# Altium schematic symbol library Passive.SchLib: 86 symbols (part 1 of 4)
Pins are listed as number, name and electrical type; pins without a type are passive.

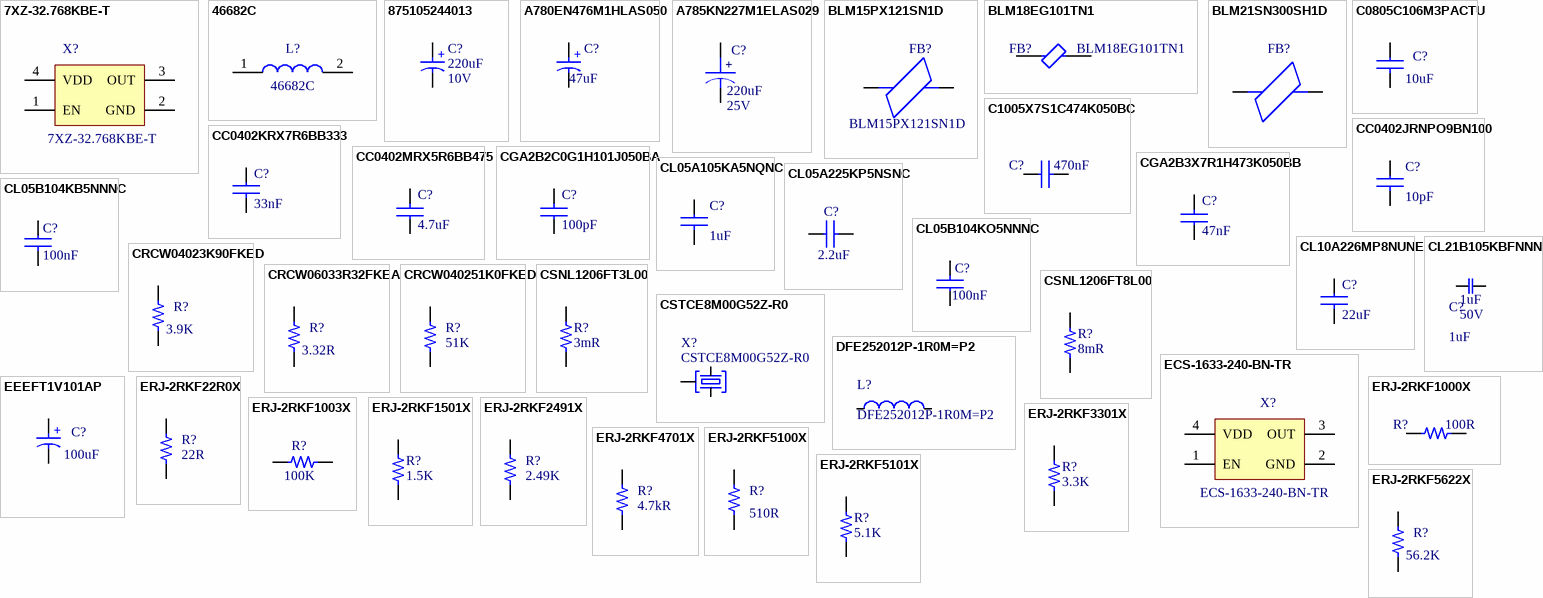
[diagram p0: symbols 7XZ-32.768KBE-T to ERJ-2RKF5622X]

## 7XZ-32.768KBE-T
designator X?
Oscillator XO 0.032768MHz ±50ppm 15pF CMOS 55% 3.3V 4-Pin CSMD T/R; Manufacturer: TXC; Library: Hexabitz; Supplier: Digikey; Supplier Part Number: 887-1579-6-ND; RoHS: Yes; Category: Oscillators; Stock: 16214; Pricing: 1=1.65, 10=1.431, 50=1.297, 100=1.2434, 500=1.12722, 1000=1.08064 (USD); ComponentLink1URL: https://datasheet.ciiva.com/13151/7xz-6803-13151400.pdf?src-supplier=Mouser; ComponentLink1Description: https://datasheet.ciiva.com/13151/7xz-6803-13151400.pdf?src-supplier=Mouser; ComponentLink2URL: https://datasheet.ciiva.com/8077/1772662-8077163.pdf?src-supplier=Element14; ComponentLink2Description: https://datasheet.ciiva.com/8077/1772662-8077163.pdf?src-supplier=Element14; ComponentLink3URL: https://datasheet.ciiva.com/6724/7xz-6724638.pdf?src-supplier=Digikey; ComponentLink3Description: https://datasheet.ciiva.com/6724/7xz-6724638.pdf?src-supplier=Digikey; ComponentLink4URL: https://datasheet.ciiva.com/6724/7xz-6724639.pdf?src-supplier=Digikey; ComponentLink4Description: https://datasheet.ciiva.com/6724/7xz-6724639.pdf?src-supplier=Digikey; Supplier 1: Digikey; Supplier Part Number 1: 887-1579-6-ND; Manufacturer Part Number: 7XZ-32.768KBE-T
footprint 7XZ32768KBET
pins: 1 EN, 2 GND, 3 OUT, 4 VDD

## 46682C
designator L?
Inductor Power Shielded Bobbin Core 6.8uH 30% 10KHz 3.1A 0.052Ohm DCR T/R; Manufacturer: Murata; Library: Hexabitz; DC Resistance (DCR): 52mR; ComponentLink1Description: datasheet; ComponentLink1URL: https://www.coilcraft.com/getmedia/dd74e670-e705-456a-9a69-585fe02eaf3c/xal1010.pdf; ComponentLink2Description: Manufacture Page; ComponentLink2URL: https://www.coilcraft.com/en-us/products/power/shielded-inductors/molded-inductor/xal/xal1010/xal1010-451/; Supplier: Digikey; Supplier Part Number: 811-1180-6-ND; RoHS: Yes; Category: Fixed Inductors; Stock: 859; Pricing: 1=0.5 (USD); Mounting Technology: Surface Mount; Case/Package: Nonstandard; Pins: 2; Min Operating Temperature: -40°C; Max Operating Temperature: 125°C; Packaging: Tape and Reel; Tolerance: 30%; Shielding: Shielded; Inductance Tolerance: 30%; Package Quantity: 1000; Value: 6.8uH; Max DC Current: 3.1A; Termination: SMD/SMT; Test Frequency: 10kHz; Series: 4600; Length: 7.3mm; Width: 7.3mm; Height: 4.55mm; Reach SVHC Compliant: No; RoHS Compliant: Yes; ComponentLink3URL: https://datasheet.ciiva.com/1057/kmp-4600-1057017.pdf?src-supplier=Digikey; ComponentLink3Description: https://datasheet.ciiva.com/1057/kmp-4600-1057017.pdf?src-supplier=Digikey; ComponentLink4URL: https://datasheet.ciiva.com/1057/kmp-4600-1057018.pdf?src-supplier=Digikey; ComponentLink4Description: https://datasheet.ciiva.com/1057/kmp-4600-1057018.pdf?src-supplier=Digikey; ComponentLink5URL: https://datasheet.ciiva.com/1057/kmp-4600-1057019.pdf?src-supplier=Digikey; ComponentLink5Description: https://datasheet.ciiva.com/1057/kmp-4600-1057019.pdf?src-supplier=Digikey; ComponentLink6URL: https://datasheet.ciiva.com/8035/1482257-8035629.pdf?src-supplier=Element14; ComponentLink6Description: https://datasheet.ciiva.com/8035/1482257-8035629.pdf?src-supplier=Element14; Supplier 1: Digikey; Supplier Part Number 1: 811-1180-6-ND; Manufacturer Part Number: 46682C
footprint IND2_7P5X7P5
pins: 1, 2

## 875105244013
designator C?  value 220uF  Voltage Rating: 10V  (hidden comment: 875105244013)
CAP ALUM POLY 220UF 20% 10V SMD; Manufacturer: Wurth Electronics; ESR (Equivalent Series Resistance): 30mR; Ripple Current: 1.97A; Library: Hexabitz; Supplier: Digikey; Supplier Part Number: 732-6413-6-ND; Manufacturer Part Number: 875105244013; RoHS: Yes; Category: Polymer Capacitors; Stock: 16329; Pricing: 1=0.7, 50=0.599, 100=0.522, 250=0.464, 500=0.406 (USD); Mounting Technology: Surface Mount; Case/Package: Radial; Min Operating Temperature: -55°C; Max Operating Temperature: 105°C; Package Quantity: 1; Packaging: Cut Tape; Tolerance: 20%; Voltage Rating (DC): 10V; Series: WCAP-PSLP; Height - Seated (Max): 0.228inch; RoHS Compliant: Yes; Reach SVHC Compliant: Unknown; ComponentLink1URL: http://www.farnell.com/datasheets/1880494.pdf?src-supplier=Farnell; ComponentLink1Description: http://www.farnell.com/datasheets/1880494.pdf?src-supplier=Farnell; ComponentLink2URL: https://katalog.we-online.de/pbs/datasheet/875105244013.pdf?src-supplier=Digikey; ComponentLink2Description: https://katalog.we-online.de/pbs/datasheet/875105244013.pdf?src-supplier=Digikey; ComponentLink3URL: http://katalog.we-online.de/pbs/datasheet/875105244013.pdf?src-supplier=Digikey; ComponentLink3Description: http://katalog.we-online.de/pbs/datasheet/875105244013.pdf?src-supplier=Digikey; ComponentLink4URL: http://www.farnell.com/datasheets/1880494.pdf?src-supplier=Element14; ComponentLink4Description: http://www.farnell.com/datasheets/1880494.pdf?src-supplier=Element14; ComponentLink5URL: http://www.farnell.com/datasheets/1880494.pdf?src-supplier=Newark; ComponentLink5Description: http://www.farnell.com/datasheets/1880494.pdf?src-supplier=Newark; Supplier 1: Digikey; Supplier Part Number 1: 732-6413-6-ND
footprint WCAP-PSLP_D6.3H5.8 (Aluminum Polymer Capacitors, body diameter 6.3mm)
pins: 1 P, 2 N
text: +

## A780EN476M1HLAS050
designator C?  value 47uF  (hidden comment: A780EN476M1HLAS050)
Cap, Alu Elec, Hybrid, 47UF, SMD Rohs Compliant: Yes; Manufacturer: KEMET; Library: Hexabitz; Voltage: 50V; Supplier: Digikey; Supplier Part Number: 399-A780EN476M1HLAS050CT-ND; Manufacturer Part Number: A780EN476M1HLAS050; RoHS: No; Category: Polymer Capacitors; Stock: 3100; Pricing: 1=0.81, 10=0.51, 50=0.3842, 100=0.3442 (USD); ComponentLink1URL: https://datasheet.octopart.com/A780EN476M1HLAS050-KEMET-datasheet-181997188.pdf?src-supplier=Farnell; ComponentLink1Description: https://datasheet.octopart.com/A780EN476M1HLAS050-KEMET-datasheet-181997188.pdf?src-supplier=Farnell; ComponentLink2Description: MFN_Datasheet; ComponentLink2URL: https://content.kemet.com/datasheets/KEM_A4098_A780.pdf; Supplier 1: Digikey; Supplier Part Number 1: 399-A780EN476M1HLAS050DKR-ND; Supplier 2: Mouser; Supplier Part Number 2: 80-A780EN476M1HLAS50
footprint CAPAE660X1000N
pins: 1 P, 2 N
text: +

## A785KN227M1ELAS029
designator C?  value 220uF  Voltage Rating: 25V  (hidden comment: A785KN227M1ELAS029)
Cap Alum Poly Hyb 26V 220F SMD; Manufacturer: KEMET; Library: Hexabitz; Supplier: Digikey; Supplier Part Number: 399-A785KN227M1ELAS029DKR-ND; RoHS: No; Stock: 2495; Pricing: 1=0.96, 10=0.609, 50=0.4616, 100=0.4148 (USD); Manufacturer Part Number: A785KN227M1ELAS029; Supplier 1: Digikey; Supplier Part Number 1: 399-A785KN227M1ELAS029DKR-ND; ComponentLink1Description: datasheet; ComponentLink1URL: https://content.kemet.com/datasheets/KEM_A4125_A785.pdf
footprint CAPAE830X1000N
pins: 1, 2
text: +

## BLM15PX121SN1D
designator FB?
Ferrite Beads Multi-Layer 120Ohm 25% 100MHz 2A 0.055Ohm DCR 0402 T/R; Manufacturer: Murata; Library: Hexabitz; Material: Steel; Core Material: 228ConductorMaterial; Impedance: 120R; Number of Lines: 1; DC Resistance (DCR): 55mR; Number of Circuits: 1NUMBER; Supplier: Digikey; Supplier Part Number: 490-9656-6-ND; Manufacturer Part Number: BLM15PX121SN1D; RoHS: Yes; Category: Ferrite Beads and Chips; Stock: 251144; Pricing: 1=0.1, 10=0.068, 25=0.0592, 50=0.053, 100=0.0475, 250=0.04092, 500=0.0364, 1000=0.0322, 5000=0.02361 (USD); Case/Package: 0402; Pins: 2; Case Code (Metric): 1005; Case Code (Imperial): 0402; Weight: 2.3E-05oz; Min Operating Temperature: -55°C; Max Operating Temperature: 125°C; Package Quantity: 1; Tolerance: 25%; Packaging: Tape and Reel; Current Rating: 2A; Max Current Rating: 2A; Termination: SMD/SMT; Max DC Current: 2A; Test Frequency: 100MHz; Series: EMIFIL®, BLM15P; RMS Current (Irms): 2A; ESR: 55mR; Length: 1mm; Width: 0.5mm; Height: 0.5mm; Reach SVHC Compliant: No; Lead Free: Lead Free; RoHS Compliant: Yes; ComponentLink1URL: https://datasheet.ciiva.com/41449/001172210-da-01-en-drossel-0402-120r-1-0x0-5mm-10000st-41449498.pdf?src-supplier=Conrad; ComponentLink1Description: https://datasheet.ciiva.com/41449/001172210-da-01-en-drossel-0402-120r-1-0x0-5mm-10000st-41449498.pdf?src-supplier=Conrad; ComponentLink2URL: https://datasheet.ciiva.com/41860/l0110e-41860699.pdf?src-supplier=Digikey; ComponentLink2Description: https://datasheet.ciiva.com/41860/l0110e-41860699.pdf?src-supplier=Digikey; Supplier 1: Digikey; Supplier Part Number 1: 490-9656-6-ND
footprint FP-BLM15-0_05-d0_7-MFG
pins: 1, 2

## BLM18EG101TN1
designator FB?
Ferrite Beads Multi-Layer 100Ohm 25% 100MHz 2A 45mOhm DCR 0603 Paper T/R; Manufacturer: Murata; Manufacturer Part Number: BLM18EG101TN1D; Library: Hexabitz; Material: Ferrite,Steel; Impedance: 100R; DC Resistance (DCR): 45mR; Number of Lines: 1; Supplier: Digikey; Supplier Part Number: 490-5978-6-ND; RoHS: Yes; Category: Ferrite Beads and Chips; Stock: 167227; Pricing: 1=0.24, 10=0.167, 25=0.1444, 50=0.1292, 100=0.1154, 250=0.09864, 500=0.08708, 1000=0.07636 (USD); Case/Package: 0603; Pins: 2; Core Material: Ferrite; Case Code (Metric): 1608; Case Code (Imperial): 0603; Min Operating Temperature: -55°C; Max Operating Temperature: 125°C; Packaging: Tape and Reel; Current Rating: 2A; Tolerance: 25%; Test Frequency: 100MHz; RMS Current (Irms): 2A; ESR: 45mR; Package Quantity: 1; Max Current Rating: 2A; Max DC Current: 2A; Termination: SMD/SMT; Number of Circuits: 1; Series: BLM18E; DC Resistance-Max: 45mR; Length: 1.6mm; Width: 0.8mm; Height: 0.8mm; Depth: 0.8mm; RoHS Compliant: Yes; Reach SVHC Compliant: No; Lead Free: Lead Free; ComponentLink1URL: https://datasheet.ciiva.com/11795/0900766b811b5866-11795406.pdf?src-supplier=Rs; ComponentLink1Description: https://datasheet.ciiva.com/11795/0900766b811b5866-11795406.pdf?src-supplier=Rs; ComponentLink2URL: https://datasheet.ciiva.com/6211/l0110s0101blm18e-6211712.pdf?src-supplier=Digikey; ComponentLink2Description: https://datasheet.ciiva.com/6211/l0110s0101blm18e-6211712.pdf?src-supplier=Digikey; ComponentLink3URL: https://datasheet.ciiva.com/41449/001171697-da-01-en-chip-drossel0603-100r-2000ma-1-6x0-8mm-41449375.pdf?src-supplier=Conrad; ComponentLink3Description: https://datasheet.ciiva.com/41449/001171697-da-01-en-chip-drossel0603-100r-2000ma-1-6x0-8mm-41449375.pdf?src-supplier=Conrad; ComponentLink4URL: https://datasheet.ciiva.com/41449/001172263-da-01-en-drossel-0603-100r-1-6x0-8mm-4000st-41449578.pdf?src-supplier=Conrad; ComponentLink4Description: https://datasheet.ciiva.com/41449/001172263-da-01-en-drossel-0603-100r-1-6x0-8mm-4000st-41449578.pdf?src-supplier=Conrad; ComponentLink5URL: https://datasheet.ciiva.com/1467/5169-1467153.pdf?src-supplier=Element14; ComponentLink5Description: https://datasheet.ciiva.com/1467/5169-1467153.pdf?src-supplier=Element14; ComponentLink6URL: https://datasheet.ciiva.com/1467/5169-1467154.pdf?src-supplier=Element14; ComponentLink6Description: https://datasheet.ciiva.com/1467/5169-1467154.pdf?src-supplier=Element14; ComponentLink7URL: https://datasheet.ciiva.com/6211/l0110s0101blm18e-6211711.pdf?src-supplier=Digikey; ComponentLink7Description: https://datasheet.ciiva.com/6211/l0110s0101blm18e-6211711.pdf?src-supplier=Digikey; ComponentLink8URL: https://datasheet.ciiva.com/6211/l0110s0101blm18e-6211709.pdf?src-supplier=Digikey; ComponentLink8Description: https://datasheet.ciiva.com/6211/l0110s0101blm18e-6211709.pdf?src-supplier=Digikey; ComponentLink9URL: https://datasheet.ciiva.com/3082/l0110s0101blm18e-3082713.pdf?src-supplier=Avnet; ComponentLink9Description: https://datasheet.ciiva.com/3082/l0110s0101blm18e-3082713.pdf?src-supplier=Avnet; ComponentLink10URL: https://datasheet.ciiva.com/16390/l0110s0101blm18e-16390603.pdf?src-supplier=Future+Electronics; ComponentLink10Description: https://datasheet.ciiva.com/16390/l0110s0101blm18e-16390603.pdf?src-supplier=Future+Electronics; Supplier 1: Digikey; Supplier Part Number 1: 490-5978-6-ND
footprint FP-BLM18-0_15-t0_5-MFG
pins: 1, 2

## BLM21SN300SH1D
designator FB?  (value not drawn)
Ferrite Beads Multi-Layer 30Ohm 10Ohm 100MHz 8.5A 0.004Ohm DCR 0805 Automotive T/R; Manufacturer: Murata; Library: Hexabitz; Core Material: 228ConductorMaterial; Number of Lines: 1; Value: 4mR; Supplier: Digikey; Supplier Part Number: 490-13265-6-ND; Manufacturer Part Number: BLM21SN300SH1D; RoHS: Yes; Category: Ferrite Beads and Chips; Stock: 29672; Pricing: 1=0.23, 10=0.162, 25=0.1404, 50=0.1258, 100=0.1124, 250=0.09608, 500=0.08486, 1000=0.07443 (USD); Mounting Technology: Surface Mount; Case/Package: 0805; Case Code (Metric): 2012; Case Code (Imperial): 0805; Min Operating Temperature: -55°C; Max Operating Temperature: 125°C; Package Quantity: 1; Packaging: Cut Tape; Max Current Rating: 8.5A; Series: EMIFIL®, BLM21S; RMS Current (Irms): 8.5A; ESR: 4mR; Test Frequency: 100MHz; Length: 0.079inch; Width: 0.049inch; Height: 0.041inch; Ratings: AEC-Q200; RoHS Compliant: Yes; ComponentLink1URL: https://media.digikey.com/pdf/Data%20Sheets/Murata%20PDFs/BLM_SN_Series_Br.pdf?src-supplier=Digikey; ComponentLink1Description: https://media.digikey.com/pdf/Data%20Sheets/Murata%20PDFs/BLM_SN_Series_Br.pdf?src-supplier=Digikey; ComponentLink2URL: http://www.murata.com/en-us/products/productdata/8796740354078/QNFA9102.pdf?src-supplier=Digikey; ComponentLink2Description: http://www.murata.com/en-us/products/productdata/8796740354078/QNFA9102.pdf?src-supplier=Digikey; Supplier 1: Digikey; Supplier Part Number 1: 490-13265-6-ND
footprint FB0805
pins: 1, 2

## C0805C106M3PACTU
designator C?  value 10uF  (hidden comment: C0805C106M3PACTU)
SMD Comm X5R 0805 (2012Metric) ceramic capacitor 0.079Lx0.049W 2.00mmx1.25mm X5R ±20% 10muF; Manufacturer: KEMET; Library: Hexabitz; Dielectric Material: 4241ConductorMaterial; Voltage Rating (DC): 25V; ComponentLink1URL: https://datasheet.ciiva.com/155/product-155891.pdf?src-supplier=Digikey; ComponentLink1Description: https://datasheet.ciiva.com/155/product-155891.pdf?src-supplier=Digikey; ComponentLink2URL: https://datasheet.ciiva.com/155/product-155890.pdf?src-supplier=Digikey; ComponentLink2Description: https://datasheet.ciiva.com/155/product-155890.pdf?src-supplier=Digikey; ComponentLink3URL: https://datasheet.ciiva.com/155/product-155892.pdf?src-supplier=Digikey; ComponentLink3Description: https://datasheet.ciiva.com/155/product-155892.pdf?src-supplier=Digikey; Supplier: Digikey; Supplier Part Number: 399-13162-6-ND; Manufacturer Part Number: C0805C106M3PACTU; RoHS: Yes; Category: Ceramic Capacitors; Stock: 5403; Pricing: 1=0.42, 10=0.255, 100=0.1692, 1000=0.12463 (USD); Case/Package: 0805; Case Code (Imperial): 0805; Case Code (Metric): 2012; Weight: 0.000194oz; Min Operating Temperature: -55°C; Max Operating Temperature: 85°C; Packaging: Tape and Reel; Tolerance: 20%; Series: C; Voltage Rating: 25V; Dielectric: X5R; Termination: SMD/SMT; Package Quantity: 2500; Length: 0.079inch; Width: 0.049inch; Thickness: 0.057inch; RoHS Compliant: Yes; Lead Free: Lead Free; ComponentLink4URL: http://www.farnell.com/datasheets/2746651.pdf?src-supplier=Farnell; ComponentLink4Description: http://www.farnell.com/datasheets/2746651.pdf?src-supplier=Farnell; ComponentLink5URL: http://www.mouser.com/ds/2/212/KEM_C1006_X5R_SMD-348855.pdf?src-supplier=Mouser; ComponentLink5Description: http://www.mouser.com/ds/2/212/KEM_C1006_X5R_SMD-348855.pdf?src-supplier=Mouser; ComponentLink6URL: http://www.farnell.com/datasheets/2746651.pdf?src-supplier=Element14; ComponentLink6Description: http://www.farnell.com/datasheets/2746651.pdf?src-supplier=Element14; ComponentLink7URL: https://datasheet.octopart.com/C0805C106M3PACTU-KEMET-datasheet-181957633.pdf?src-supplier=Element14; ComponentLink7Description: https://datasheet.octopart.com/C0805C106M3PACTU-KEMET-datasheet-181957633.pdf?src-supplier=Element14; ComponentLink8URL: https://datasheet.octopart.com/C0805C106M3PACTU-KEMET-datasheet-181957633.pdf?src-supplier=Farnell; ComponentLink8Description: https://datasheet.octopart.com/C0805C106M3PACTU-KEMET-datasheet-181957633.pdf?src-supplier=Farnell; ComponentLink9URL: https://api.kemet.com/component-edge/download/datasheet/C0805C106M3PAC7800.pdf?src-supplier=Digikey; ComponentLink9Description: https://api.kemet.com/component-edge/download/datasheet/C0805C106M3PAC7800.pdf?src-supplier=Digikey; ComponentLink10URL: http://www.kemet.com/docfinder?Partnumber=C0805C106M3PAC7800&src-supplier=Digikey; ComponentLink10Description: http://www.kemet.com/docfinder?Partnumber=C0805C106M3PAC7800&src-supplier=Digikey; ComponentLink11URL: http://www.farnell.com/datasheets/2746651.pdf?src-supplier=Newark; ComponentLink11Description: http://www.farnell.com/datasheets/2746651.pdf?src-supplier=Newark; ComponentLink12URL: https://datasheet.octopart.com/C0805C106M3PACTU-KEMET-datasheet-171832736.pdf?src-supplier=Newark; ComponentLink12Description: https://datasheet.octopart.com/C0805C106M3PACTU-KEMET-datasheet-171832736.pdf?src-supplier=Newark; ComponentLink13URL: http://www.kemet.com/Lists/ProductCatalog/Attachments/19/KEM_C1006_X5R_SMD.pdf?src-supplier=Avnet; ComponentLink13Description: http://www.kemet.com/Lists/ProductCatalog/Attachments/19/KEM_C1006_X5R_SMD.pdf?src-supplier=Avnet; Supplier 1: Digikey; Supplier Part Number 1: 399-13162-6-ND
footprint C0805
pins: 1, 2

## C1005X7S1C474K050BC
designator C?, comment 470nF
Multilayer Ceramic Capacitor, 0.47 uF, 16 V, ± 10%, X7S, 0402 [1005 Metric]; Manufacturer: TDK; Manufacturer Part Number: C1005X7S1C474K050BC; Material: 4241ConductorMaterial; Voltage Rating: 16V; Dielectric: 1542DielectricType; Library: Hexabitz; Supplier: Digikey; Supplier Part Number: 445-174768-1-ND; RoHS: Yes; Category: Ceramic Capacitors; Stock: 28339; Pricing: 1=0.2, 10=0.117, 100=0.0734, 1000=0.05087, 2500=0.0442, 5000=0.04189 (USD); Mounting Technology: Surface Mount; Case/Package: 0402; Case Code (Imperial): 0402; Case Code (Metric): 1005; Min Operating Temperature: -55°C; Max Operating Temperature: 125°C; Packaging: Cut Tape; Tolerance: 10%; Series: C; Voltage Rating (DC): 16V; Length: 1mm; Width: 500um; Height: 550um; Thickness: 500um; RoHS Compliant: Yes; Lead Free: 5697LeadFree; ComponentLink1URL: https://product.tdk.com/info/en/catalog/spec/mlccspec_commercial_general_midvoltage_en.pdf?src-supplier=Digikey; ComponentLink1Description: https://product.tdk.com/info/en/catalog/spec/mlccspec_commercial_general_midvoltage_en.pdf?src-supplier=Digikey; ComponentLink2URL: https://product.tdk.com/info/en/catalog/datasheets/mlcc_commercial_general_en.pdf?src-supplier=Digikey; ComponentLink2Description: https://product.tdk.com/info/en/catalog/datasheets/mlcc_commercial_general_en.pdf?src-supplier=Digikey; Supplier 1: Digikey; Supplier Part Number 1: 445-174768-6-ND; Value: 470nF
footprint C0402
pins: 1, 2

## CC0402JRNPO9BN100
designator C?  value 10pF  (hidden comment: CC0402JRNPO9BN100)
0402 10 pF 50 V ±5 % Tolerance NP0 SMT Multilayer Ceramic Capacitor; Manufacturer: Yageo; Library: Hexabitz; Tolerance: 5%; Dielectric: C0G; Voltage Rating: 50V; Temperature Coefficient: 30ppm/°C; Insulation Resistance: 100GR; Supplier: Digikey; Supplier Part Number: 311-1014-6-ND; Manufacturer Part Number: CC0402JRNPO9BN100; RoHS: Yes; Category: Ceramic Capacitors; Stock: 1079299; Pricing: 1=0.1, 10=0.024, 100=0.0133, 1000=0.00812, 2500=0.00685, 5000=0.00609 (USD); Mounting Technology: Surface Mount; Case/Package: 0402; Pins: 2; Case Code (Metric): 1005; Case Code (Imperial): 0402; Dielectric Material: Ceramic; Min Operating Temperature: -55°C; Max Operating Temperature: 125°C; Packaging: Tape and Reel; Voltage Rating (DC): 50V; Package Quantity: 1; Termination: SMD/SMT; Voltage: 50V; Series: CC; Voltage Rating (AC): 50V; Length: 1mm; Width: 0.02inch; Height: 0.5mm; Thickness: 0.022inch; Depth: 0.5mm; Radiation Hardening: No; RoHS Compliant: Yes; Reach SVHC Compliant: No; Lead Free: Lead Free; Halogen Free: 5694HalogenFree; ComponentLink1URL: https://datasheet.ciiva.com/11786/0900766b8079c870-11786158.pdf?src-supplier=Rs; ComponentLink1Description: https://datasheet.ciiva.com/11786/0900766b8079c870-11786158.pdf?src-supplier=Rs; ComponentLink2URL: https://datasheet.ciiva.com/8033/1443161-8033593.pdf?src-supplier=Element14; ComponentLink2Description: https://datasheet.ciiva.com/8033/1443161-8033593.pdf?src-supplier=Element14; ComponentLink3URL: https://datasheet.ciiva.com/28450/1443161-28450213.pdf?src-supplier=Element14; ComponentLink3Description: https://datasheet.ciiva.com/28450/1443161-28450213.pdf?src-supplier=Element14; ComponentLink4URL: https://datasheet.ciiva.com/8033/1443161-8033596.pdf?src-supplier=Element14; ComponentLink4Description: https://datasheet.ciiva.com/8033/1443161-8033596.pdf?src-supplier=Element14; ComponentLink5URL: https://datasheet.ciiva.com/8033/1443161-8033591.pdf?src-supplier=Element14; ComponentLink5Description: https://datasheet.ciiva.com/8033/1443161-8033591.pdf?src-supplier=Element14; ComponentLink6URL: https://datasheet.ciiva.com/143/mlccorderingcode-143993.pdf?src-supplier=Digikey; ComponentLink6Description: https://datasheet.ciiva.com/143/mlccorderingcode-143993.pdf?src-supplier=Digikey; ComponentLink7URL: https://datasheet.ciiva.com/143/mlccorderingcode-143992.pdf?src-supplier=Digikey; ComponentLink7Description: https://datasheet.ciiva.com/143/mlccorderingcode-143992.pdf?src-supplier=Digikey; ComponentLink8URL: https://datasheet.ciiva.com/143/mlccorderingcode-143994.pdf?src-supplier=Digikey; ComponentLink8Description: https://datasheet.ciiva.com/143/mlccorderingcode-143994.pdf?src-supplier=Digikey; ComponentLink9URL: https://datasheet.ciiva.com/5427/upy-gp-np0-16v-to-50v-8-5427741.pdf?src-supplier=Mouser; ComponentLink9Description: https://datasheet.ciiva.com/5427/upy-gp-np0-16v-to-50v-8-5427741.pdf?src-supplier=Mouser; Supplier 1: Digikey; Supplier Part Number 1: 311-1014-6-ND
footprint C0402
pins: 1, 2

## CC0402KRX7R6BB333
designator C?  value 33nF  (hidden comment: CC0402KRX7R6BB333)
Multilayer Ceramic Capacitor, 0.033 uF, 50 V, ± 0.25pF, C0G (NP0), 0402 [1005 Metric]; Manufacturer: Yageo; Temperature Coefficient: 30ppm/°C; Library: Hexabitz; Supplier: Digikey; Supplier Part Number: 311-1704-6-ND; Manufacturer Part Number: CC0402KRX7R6BB333; RoHS: Yes; Category: Ceramic Capacitors; Stock: 94282; Pricing: 1=0.1, 10=0.03, 100=0.0171, 1000=0.01059, 2500=0.00781, 5000=0.00769 (USD); Pins: 2NUMBER; Lead Free: 5697LeadFree; ComponentLink1URL: https://datasheet.ciiva.com/26862/getdatasheetpartid-314496-26862633.pdf?src-supplier=Verical; ComponentLink1Description: https://datasheet.ciiva.com/26862/getdatasheetpartid-314496-26862633.pdf?src-supplier=Verical; ComponentLink2URL: https://datasheet.ciiva.com/13210/upy-gphc-x7r-6-3v-to-50v-8-12304-13210939.pdf?src-supplier=Mouser; ComponentLink2Description: https://datasheet.ciiva.com/13210/upy-gphc-x7r-6-3v-to-50v-8-12304-13210939.pdf?src-supplier=Mouser; ComponentLink3URL: https://datasheet.ciiva.com/11464/upy-gphc-x7r-6-3v-to-50v-8-11464872.pdf?src-supplier=Avnet; ComponentLink3Description: https://datasheet.ciiva.com/11464/upy-gphc-x7r-6-3v-to-50v-8-11464872.pdf?src-supplier=Avnet; ComponentLink4URL: https://datasheet.ciiva.com/7978/1489800-7978102.pdf?src-supplier=Element14; ComponentLink4Description: https://datasheet.ciiva.com/7978/1489800-7978102.pdf?src-supplier=Element14; Supplier 1: Digikey; Supplier Part Number 1: 311-1704-6-ND
footprint C0402
pins: 1, 2

## CC0402MRX5R6BB475
designator C?  value 4.7uF  (hidden comment: *)
0402 4700000 pF 10 V ±20 % Tol. X5R Surface Mount Multilayer Ceramic Capacitor; Manufacturer: Yageo; Manufacturer Part Number: CC0402MRX5R6BB475; Material: 4241ConductorMaterial; Voltage Rating: 10V; Tolerance: 20%; Temperature Coefficient: 30ppm/°C; Library: Hexabitz; Supplier: Digikey; Supplier Part Number: 311-1734-6-ND; RoHS: Yes; Category: Ceramic Capacitors; Stock: 1165768; Pricing: 1=0.08, 10=0.041, 100=0.0248, 1000=0.0168, 2500=0.0128 (USD); Mounting Technology: Surface Mount; Case/Package: 0402; Case Code (Metric): 1005; Case Code (Imperial): 0402; Weight: 2.3E-05oz; Min Operating Temperature: -55°C; Max Operating Temperature: 85°C; Packaging: Tape and Reel; Dielectric: X5R; Termination: SMD/SMT; Voltage Rating (DC): 10V; Package Quantity: 10000; Series: CC; Length: 0.039inch; Width: 0.02inch; Height: 0.5mm; Thickness: 0.022inch; Lead Free: Lead Free; Halogen Free: Halogen Free; RoHS Compliant: Yes; ComponentLink1URL: http://www.mouser.com/ds/2/447/Yageo_UPY-GP_NP0_16V-to-50V_9-358835.pdf?src-supplier=Mouser; ComponentLink1Description: http://www.mouser.com/ds/2/447/Yageo_UPY-GP_NP0_16V-to-50V_9-358835.pdf?src-supplier=Mouser; ComponentLink2URL: http://www.yageo.com/documents/recent/UPY-GPHC_X5R_4V-to-50V_25.pdf?src-supplier=Digikey; ComponentLink2Description: http://www.yageo.com/documents/recent/UPY-GPHC_X5R_4V-to-50V_25.pdf?src-supplier=Digikey; ComponentLink3URL: https://datasheet.octopart.com/CC0402MRX5R6BB475-Yageo-datasheet-140260304.pdf?src-supplier=Newark; ComponentLink3Description: https://datasheet.octopart.com/CC0402MRX5R6BB475-Yageo-datasheet-140260304.pdf?src-supplier=Newark; ComponentLink4URL: https://datasheet.octopart.com/CC0402MRX5R6BB475-Yageo-datasheet-182029487.pdf?src-supplier=Farnell; ComponentLink4Description: https://datasheet.octopart.com/CC0402MRX5R6BB475-Yageo-datasheet-182029487.pdf?src-supplier=Farnell; ComponentLink5URL: https://datasheet.octopart.com/CC0402MRX5R6BB475-Yageo-datasheet-182029487.pdf?src-supplier=Element14; ComponentLink5Description: https://datasheet.octopart.com/CC0402MRX5R6BB475-Yageo-datasheet-182029487.pdf?src-supplier=Element14; Supplier 1: Digikey; Supplier Part Number 1: 311-1734-6-ND
footprint C0402
pins: 1, 2

## CGA2B2C0G1H101J050BA
designator C?  value 100pF  (hidden comment: CGA2B2C0G1H101J050BA)
50V 100PF C0G 卤5% 0402 Multilayer Ceramic Capacitors Mlcc - Smd/smt Rohs; Manufacturer: TDK; Material: 4241ConductorMaterial; Temperature Coefficient: 30ppm/°C; Library: Hexabitz; Supplier: Digikey; Supplier Part Number: 445-5596-6-ND; Manufacturer Part Number: CGA2B2C0G1H101J050BA; RoHS: Yes; Category: Ceramic Capacitors; Stock: 410624; Pricing: 1=0.1, 10=0.039, 100=0.0225, 1000=0.01425, 2500=0.01222, 5000=0.011 (USD); Lead Free: 5697LeadFree; ComponentLink1URL: https://datasheet.ciiva.com/24219/cga2b2c0g1h101j050ba-265744-24219838.pdf?src-supplier=Mouser; ComponentLink1Description: https://datasheet.ciiva.com/24219/cga2b2c0g1h101j050ba-265744-24219838.pdf?src-supplier=Mouser; ComponentLink2URL: https://datasheet.ciiva.com/7975/1807242-7975228.pdf?src-supplier=Element14; ComponentLink2Description: https://datasheet.ciiva.com/7975/1807242-7975228.pdf?src-supplier=Element14; ComponentLink3URL: https://datasheet.ciiva.com/22694/1807242-22694219.pdf?src-supplier=Element14; ComponentLink3Description: https://datasheet.ciiva.com/22694/1807242-22694219.pdf?src-supplier=Element14; Supplier 1: Digikey; Supplier Part Number 1: 445-5596-6-ND
footprint C0402
pins: 1, 2

## CGA2B3X7R1H473K050BB
designator C?  value 47nF  (hidden comment: CGA2B3X7R1H473K050BB)
50V 47nF X7R 卤10% 0402 Multilayer Ceramic Capacitors MLCC - SMD/SMT ROHS; Manufacturer: TDK; Material: 4241ConductorMaterial; Tolerance: 10%; Library: Hexabitz; Supplier: Digikey; Supplier Part Number: 445-6897-6-ND; Manufacturer Part Number: CGA2B3X7R1H473K050BB; RoHS: Yes; Category: Ceramic Capacitors; Stock: 830464; Pricing: 1=0.1, 10=0.05, 100=0.0294, 1000=0.019, 2500=0.01643, 5000=0.01489 (USD); Mounting Technology: Surface Mount; Case/Package: 0402; Case Code (Metric): 1005; Case Code (Imperial): 0402; Weight: 2.3E-05oz; Min Operating Temperature: -55°C; Max Operating Temperature: 125°C; Voltage Rating: 50V; Voltage Rating (DC): 50V; Packaging: Tape and Reel; Package Quantity: 1; Dielectric: X7R; Termination: SMD/SMT; Series: CGA; Construction: Flat; Length: 1mm; Width: 0.02inch; Height: 0.5mm; Thickness: 0.022inch; Depth: 0.5mm; Ratings: AEC-Q200; Reach SVHC Compliant: No; RoHS Compliant: Yes; Lead Free: 5697LeadFree; ComponentLink1URL: https://datasheet.ciiva.com/22703/1807242-22703015.pdf?src-supplier=Element14; ComponentLink1Description: https://datasheet.ciiva.com/22703/1807242-22703015.pdf?src-supplier=Element14; ComponentLink2URL: https://datasheet.ciiva.com/22725/1735392-22725630.pdf?src-supplier=Element14; ComponentLink2Description: https://datasheet.ciiva.com/22725/1735392-22725630.pdf?src-supplier=Element14; ComponentLink3URL: https://datasheet.ciiva.com/28563/1735392-28563965.pdf?src-supplier=Element14; ComponentLink3Description: https://datasheet.ciiva.com/28563/1735392-28563965.pdf?src-supplier=Element14; Supplier 1: Digikey; Supplier Part Number 1: 445-6897-6-ND
footprint C0402
pins: 1, 2

## CL05A105KA5NQNC
designator C?  value 1uF  (hidden comment: *)
Multilayer Ceramic Capacitor, 1 Uf, 25 V, ½ 10%, X5R, 0402 [1005 Metric]; Manufacturer: Samsung; Manufacturer Part Number: CL05A105KA5NQNC; Voltage Rating: 25V; Library: Hexabitz; Supplier: Digikey; Supplier Part Number: 1276-1445-6-ND; RoHS: Yes; Category: Ceramic Capacitors; Stock: 1206917; Pricing: 1=0.08, 10=0.048, 100=0.0312, 1000=0.0224, 2500=0.02142 (USD); Mounting Technology: Surface Mount; Case/Package: 0402; Material: Ceramic; Case Code (Metric): 1005; Case Code (Imperial): 0402; Min Operating Temperature: -55°C; Max Operating Temperature: 85°C; Package Quantity: 10000; Series: CL; Tolerance: 10%; Packaging: Tape and Reel; Dielectric: X5R; Construction: Flat; Length: 1mm; Width: 0.02inch; Height: 0.5mm; Thickness: 0.022inch; Depth: 0.5mm; Radiation Hardening: No; Lead Free: Lead Free; RoHS Compliant: Yes; ComponentLink1URL: https://datasheet.ciiva.com/25720/cl05a105ka5nqnc-25720771.pdf?src-supplier=Digikey; ComponentLink1Description: https://datasheet.ciiva.com/25720/cl05a105ka5nqnc-25720771.pdf?src-supplier=Digikey; ComponentLink2URL: https://datasheet.ciiva.com/3777/cl05a105ka5nqnc-3777709.pdf?src-supplier=Arrow+Electronics; ComponentLink2Description: https://datasheet.ciiva.com/3777/cl05a105ka5nqnc-3777709.pdf?src-supplier=Arrow+Electronics; ComponentLink3URL: https://datasheet.ciiva.com/29198/459147-da-01-en-vs-kondensator-0402-29198339.pdf?src-supplier=Conrad; ComponentLink3Description: https://datasheet.ciiva.com/29198/459147-da-01-en-vs-kondensator-0402-29198339.pdf?src-supplier=Conrad; Supplier 1: Digikey; Supplier Part Number 1: 1276-1445-6-ND
footprint C0402
pins: 1, 2

## CL05A225KP5NSNC
designator C?  value 2.2uF  (hidden comment: *)
Multilayer Ceramic Capacitor, 2.2 uF, 10 V, ï¿½ 10%, X5R, 0402 [1005 Metric]; Manufacturer: Samsung; Manufacturer Part Number: CL05A225KP5NSNC; Material: 4241ConductorMaterial; Library: Hexabitz; Supplier: Digikey; Supplier Part Number: 1276-1108-6-ND; RoHS: Yes; Category: Ceramic Capacitors; Stock: 131474; Pricing: 1=0.13, 10=0.073, 100=0.044, 1000=0.02931, 2500=0.02568, 5000=0.02349 (USD); ComponentLink1URL: https://datasheet.ciiva.com/26838/getdatasheetpartid-358634-26838179.pdf?src-supplier=Verical; ComponentLink1Description: https://datasheet.ciiva.com/26838/getdatasheetpartid-358634-26838179.pdf?src-supplier=Verical; ComponentLink2URL: https://datasheet.ciiva.com/25794/cl05a225kp5nsnc-25794439.pdf?src-supplier=Digikey; ComponentLink2Description: https://datasheet.ciiva.com/25794/cl05a225kp5nsnc-25794439.pdf?src-supplier=Digikey; Supplier 1: Digikey; Supplier Part Number 1: 1276-1108-6-ND
footprint C0402
pins: 1, 2

## CL05B104KB5NNNC
designator C?, comment 100nF
Multilayer Ceramic Capacitor, 0.1 uF, 50 V, ï¿½ 10%, X7R, 0402 [1005 Metric]; Manufacturer: Samsung; Manufacturer Part Number: CL05B104KB5NNNC; Material: 4241ConductorMaterial; Dielectric: 1511DielectricType; Voltage Rating (DC): 50V; Library: Hexabitz; Supplier: Digikey; Supplier Part Number: 1276-CL05B104KB5NNNCCT-ND; RoHS: Yes; Category: Ceramic Capacitors; Stock: 357984; Pricing: 1=0.08, 10=0.022, 100=0.0144, 1000=0.0096, 2500=0.008 (USD); Case/Package: 343Case; Min Operating Temperature: -55°C; Max Operating Temperature: 125°C; Tolerance: 10%; Height: 550um; RoHS Compliant: Yes; ComponentLink1URL: https://datasheet.octopart.com/CL05B104KB5NNNC-Samsung-datasheet-97040617.pdf?src-supplier=Future+Electronics; ComponentLink1Description: https://datasheet.octopart.com/CL05B104KB5NNNC-Samsung-datasheet-97040617.pdf?src-supplier=Future+Electronics; ComponentLink2URL: https://datasheet.octopart.com/CL05B104KB5NNNC-Samsung-datasheet-8326407.pdf?src-supplier=TME; ComponentLink2Description: https://datasheet.octopart.com/CL05B104KB5NNNC-Samsung-datasheet-8326407.pdf?src-supplier=TME; Supplier 1: Digikey; Supplier Part Number 1: 1276-CL05B104KB5NNNCCT-ND; Voltage Rating: 50V; Value: 100nF
footprint C0402
pins: 1, 2

## CL05B104KO5NNNC
designator C?  value 100nF  (hidden comment: CL05B104KO5NNNC)
0.1 µF ±10% 16V Ceramic Capacitor X7R 0402 (1005 Metric); Manufacturer: Samsung; Temperature Coefficient: 100ppm/°C; Power Rating: 62.5mW; Max Power Dissipation: 63mW; Resistance Tolerance: 1%; Library: Hexabitz; Supplier: Digikey; Supplier Part Number: 1276-1001-6-ND; Manufacturer Part Number: CL05B104KO5NNNC; RoHS: Yes; Category: Ceramic Capacitors; Stock: 456721; Pricing: 1=0.08, 10=0.009, 100=0.0056, 1000=0.004 (USD); Mounting Technology: Surface Mount; Case/Package: 0402; Case Code (Metric): 1005; Case Code (Imperial): 0402; Material: Ceramic; Min Operating Temperature: -55°C; Max Operating Temperature: 125°C; Tolerance: 10%; Package Quantity: 1; Packaging: Tape and Reel; Voltage Rating: 16V; Dielectric: X7R; Series: CL; Voltage Rating (DC): 16V; Construction: Flat; Length: 1mm; Width: 0.02inch; Height: 0.5mm; Thickness: 0.022inch; Depth: 0.5mm; Radiation Hardening: No; RoHS Compliant: Yes; Lead Free: 5697LeadFree; ComponentLink1URL: https://datasheet.ciiva.com/26920/getdatasheetpartid-359683-26920169.pdf?src-supplier=Verical; ComponentLink1Description: https://datasheet.ciiva.com/26920/getdatasheetpartid-359683-26920169.pdf?src-supplier=Verical; ComponentLink2URL: https://datasheet.ciiva.com/29198/458718-da-01-en-vs-kondensator-0402-29198423.pdf?src-supplier=Conrad; ComponentLink2Description: https://datasheet.ciiva.com/29198/458718-da-01-en-vs-kondensator-0402-29198423.pdf?src-supplier=Conrad; ComponentLink3URL: https://datasheet.ciiva.com/26309/mlcc-catalogdownload2013-eng-26309003.pdf?src-supplier=Distrelec; ComponentLink3Description: https://datasheet.ciiva.com/26309/mlcc-catalogdownload2013-eng-26309003.pdf?src-supplier=Distrelec; ComponentLink4URL: https://datasheet.ciiva.com/16208/cl05b104kq5nnnc-16208343.pdf?src-supplier=Future+Electronics; ComponentLink4Description: https://datasheet.ciiva.com/16208/cl05b104kq5nnnc-16208343.pdf?src-supplier=Future+Electronics; Pins: 2; Resistor Type: Thick Film; Termination: SMD/SMT; Number of Terminations: 2; Features: Moisture Resistant; Lead Pitch: 0.2mm; Reach SVHC Compliant: Unknown; Military Standard: Not; ComponentLink5URL: https://datasheet.ciiva.com/7660/38568-7660787.pdf?src-supplier=Element14; ComponentLink5Description: https://datasheet.ciiva.com/7660/38568-7660787.pdf?src-supplier=Element14; ComponentLink6URL: https://datasheet.ciiva.com/7849/1686128-7849814.pdf?src-supplier=Element14; ComponentLink6Description: https://datasheet.ciiva.com/7849/1686128-7849814.pdf?src-supplier=Element14; ComponentLink7URL: https://datasheet.ciiva.com/7983/1018594-7983486.pdf?src-supplier=Element14; ComponentLink7Description: https://datasheet.ciiva.com/7983/1018594-7983486.pdf?src-supplier=Element14; ComponentLink8URL: https://datasheet.ciiva.com/22747/1018594-22747512.pdf?src-supplier=Element14; ComponentLink8Description: https://datasheet.ciiva.com/22747/1018594-22747512.pdf?src-supplier=Element14; ComponentLink9URL: https://datasheet.ciiva.com/12667/pyu-rc0402-51-rohs-l-6-r-12667067.pdf?src-supplier=Mouser; ComponentLink9Description: https://datasheet.ciiva.com/12667/pyu-rc0402-51-rohs-l-6-r-12667067.pdf?src-supplier=Mouser; ComponentLink10URL: https://datasheet.ciiva.com/7849/1784430-7849813.pdf?src-supplier=Element14; ComponentLink10Description: https://datasheet.ciiva.com/7849/1784430-7849813.pdf?src-supplier=Element14; ComponentLink11URL: https://datasheet.ciiva.com/7849/1784430-7849815.pdf?src-supplier=Element14; ComponentLink11Description: https://datasheet.ciiva.com/7849/1784430-7849815.pdf?src-supplier=Element14; Voltage: 16V; Supplier 1: Digikey; Supplier Part Number 1: 1276-1001-6-ND; Supplier 2: Mouser; Supplier Part Number 2: 187-CL05B104KO5NNNC
footprint C0402
pins: 1, 2

## CL10A226MP8NUNE
designator C?  value 22uF  (hidden comment: CL10A226MP8NUNE)
Multilayer Ceramic Capacitor 22 Uf 10 V ½ 20% X5R 0603 [1608 Metric]; Manufacturer: Samsung; Voltage Rating: 10V; Library: Hexabitz; Supplier: Digikey; Supplier Part Number: 1276-1274-6-ND; Manufacturer Part Number: CL10A226MP8NUNE; RoHS: Yes; Category: Ceramic Capacitors; Stock: 2546017; Pricing: 1=0.08, 10=0.047, 100=0.0312, 1000=0.0216 (USD); Mounting Technology: Surface Mount; Case/Package: 0603; Case Code (Metric): 1608; Case Code (Imperial): 0603; Min Operating Temperature: -55°C; Max Operating Temperature: 85°C; Packaging: Tape and Reel; Tolerance: 20%; Dielectric: X5R; Series: CL; Construction: Flat; Length: 1.6mm; Height: 0.8mm; Depth: 0.8mm; Radiation Hardening: No; Lead Free: Lead Free; RoHS Compliant: Yes; ComponentLink1URL: https://datasheet.ciiva.com/25711/cl10a226mp8nune-25711532.pdf?src-supplier=Digikey; ComponentLink1Description: https://datasheet.ciiva.com/25711/cl10a226mp8nune-25711532.pdf?src-supplier=Digikey; ComponentLink2URL: https://datasheet.ciiva.com/26838/getdatasheetpartid-746477-26838370.pdf?src-supplier=Verical; ComponentLink2Description: https://datasheet.ciiva.com/26838/getdatasheetpartid-746477-26838370.pdf?src-supplier=Verical; Supplier 1: Digikey; Supplier Part Number 1: 1276-1274-6-ND; Supplier 2: Mouser; Supplier Part Number 2: 187-CL10A226MP8NUNE
footprint C0603
pins: 1, 2

## CL21B105KBFNNNG
designator C?, comment 1uF  Voltage: 50V
Cap Ceramic 1uF 50V X7R 10% SMD 0805 125°C Embossed Plastic T/R; Manufacturer: Samsung; Manufacturer Part Number: CL21B105KBFNNNG; Library: Hexabitz; Supplier: Digikey; Supplier Part Number: 1276-6470-1-ND; RoHS: Yes; Category: Ceramic Capacitors; Stock: 324342; Pricing: 1=0.11, 10=0.06, 100=0.0358, 1000=0.02348 (USD); Mounting Technology: Surface Mount; Case/Package: 0805; Case Code (Metric): 2012; Case Code (Imperial): 0805; Material: Ceramic; Min Operating Temperature: -55°C; Max Operating Temperature: 125°C; Tolerance: 10%; Packaging: Tape and Reel; Voltage Rating: 50V; Package Quantity: 3000; Dielectric: X7R; Series: CL; Voltage Rating (DC): 50V; Length: 0.079inch; Width: 0.049inch; Thickness: 0.053inch; Depth: 1.25mm; RoHS Compliant: Yes; ComponentLink1URL: https://datasheet.ciiva.com/29199/455898-da-01-en-vs-kondensator-0805-29199201.pdf?src-supplier=Conrad; ComponentLink1Description: https://datasheet.ciiva.com/29199/455898-da-01-en-vs-kondensator-0805-29199201.pdf?src-supplier=Conrad; ComponentLink2URL: https://datasheet.ciiva.com/26310/mlcc-catalogdownload2013-eng-26310125.pdf?src-supplier=Distrelec; ComponentLink2Description: https://datasheet.ciiva.com/26310/mlcc-catalogdownload2013-eng-26310125.pdf?src-supplier=Distrelec; ComponentLink3URL: https://datasheet.ciiva.com/16428/cl05b104kq5nnnc-16428872.pdf?src-supplier=Future+Electronics; ComponentLink3Description: https://datasheet.ciiva.com/16428/cl05b104kq5nnnc-16428872.pdf?src-supplier=Future+Electronics; Supplier 1: Digikey; Supplier Part Number 1: 1276-6470-6-ND; Value: 1uF
footprint C0805
pins: 1, 2

## CRCW04023K90FKED
designator R?  value 3.9K  (hidden comment: CRCW04023K90FKED)
CRCW FIXED RESISTOR 0402 (1005Metric) Chip Resistor ±1% ±100ppm/C 3.9kOhm 0.063W 1/16W; Manufacturer: Vishay; Library: Hexabitz; Voltage Rating (DC): 50V; Supplier: Digikey; Supplier Part Number: 541-3.90KLDKR-ND; Manufacturer Part Number: CRCW04023K90FKED; RoHS: Yes; Category: Chip SMD Resistors; Stock: 144892; Pricing: 1=0.1, 10=0.03, 100=0.0148, 1000=0.0084 (USD); Lead Free: 5697LeadFree; ComponentLink1URL: https://datasheet.ciiva.com/11808/0900766b80d98824-11808689.pdf?src-supplier=Rs; ComponentLink1Description: https://datasheet.ciiva.com/11808/0900766b80d98824-11808689.pdf?src-supplier=Rs; ComponentLink2URL: https://datasheet.ciiva.com/5550/dcrcwe3-109170-5550742.pdf?src-supplier=Mouser; ComponentLink2Description: https://datasheet.ciiva.com/5550/dcrcwe3-109170-5550742.pdf?src-supplier=Mouser; ComponentLink3URL: https://datasheet.ciiva.com/22674/1847332-22674695.pdf?src-supplier=Element14; ComponentLink3Description: https://datasheet.ciiva.com/22674/1847332-22674695.pdf?src-supplier=Element14; ComponentLink4URL: https://datasheet.ciiva.com/26316/fld-crcw-e3-data-en-26316653.pdf?src-supplier=Distrelec; ComponentLink4Description: https://datasheet.ciiva.com/26316/fld-crcw-e3-data-en-26316653.pdf?src-supplier=Distrelec; ComponentLink5URL: https://datasheet.ciiva.com/7841/1697337-7841517.pdf?src-supplier=Element14; ComponentLink5Description: https://datasheet.ciiva.com/7841/1697337-7841517.pdf?src-supplier=Element14; ComponentLink6URL: https://datasheet.ciiva.com/7841/1697337-7841518.pdf?src-supplier=Element14; ComponentLink6Description: https://datasheet.ciiva.com/7841/1697337-7841518.pdf?src-supplier=Element14; ComponentLink7URL: https://datasheet.ciiva.com/16204/dcrcwe3-16204888.pdf?src-supplier=Future+Electronics; ComponentLink7Description: https://datasheet.ciiva.com/16204/dcrcwe3-16204888.pdf?src-supplier=Future+Electronics; ComponentLink8URL: https://datasheet.ciiva.com/2463/dcrcwe3-2463517.pdf?src-supplier=Digikey; ComponentLink8Description: https://datasheet.ciiva.com/2463/dcrcwe3-2463517.pdf?src-supplier=Digikey; ComponentLink9URL: https://datasheet.ciiva.com/2463/dcrcwe3-2463518.pdf?src-supplier=Digikey; ComponentLink9Description: https://datasheet.ciiva.com/2463/dcrcwe3-2463518.pdf?src-supplier=Digikey; ComponentLink10URL: https://datasheet.ciiva.com/2463/dcrcwe3-2463519.pdf?src-supplier=Digikey; ComponentLink10Description: https://datasheet.ciiva.com/2463/dcrcwe3-2463519.pdf?src-supplier=Digikey; ComponentLink11URL: https://datasheet.ciiva.com/9076/dcrcwe3-9076485.pdf?src-supplier=Avnet; ComponentLink11Description: https://datasheet.ciiva.com/9076/dcrcwe3-9076485.pdf?src-supplier=Avnet; Supplier 1: Digikey; Supplier Part Number 1: 541-3.90KLDKR-ND
footprint R0402_3
pins: 1, 2

## CRCW06033R32FKEA
designator R?  value 3.32R  (hidden comment: CRCW06033R32FKEA)
SMD Chip Resistor, 3.32 Ohm, ± 1%, 100 mW, 0603 [1608 Metric], Thick Film, General Purpose; Manufacturer: Vishay Dale; Library: Hexabitz; Max Power Dissipation: 100mW; Temperature Coefficient: 100ppm/°C; Voltage Rating: 75V; Supplier: Digikey; Supplier Part Number: 541-3.32HHDKR-ND; Manufacturer Part Number: CRCW06033R32FKEA; RoHS: Yes; Category: Chip SMD Resistors; Stock: 9319; Pricing: 1=0.1, 10=0.039, 100=0.0199, 1000=0.01161, 2500=0.00976 (USD); Case/Package: 0603; Weight: 7.1E-05oz; Case Code (Metric): 1608; Case Code (Imperial): 0603; Contact Plating: Tin; Min Operating Temperature: -55°C; Max Operating Temperature: 155°C; Tolerance: 1%; Packaging: Tape and Reel; Package Quantity: 5000; Number of Terminations: 2; Features: Automotive AEC-Q200; Series: CRCW; Power Rating: 100mW; Termination: SMD/SMT; Construction: Rectangular; Length: 1.55mm; Width: 0.85mm; Height: 0.45mm; Depth: 0.85mm; Ratings: AEC-Q200; Radiation Hardening: No; Lead Free: Lead Free; RoHS Compliant: Yes; Military Standard: Not; ComponentLink1URL: https://datasheet.ciiva.com/2466/dcrcwe3-2466131.pdf?src-supplier=Digikey; ComponentLink1Description: https://datasheet.ciiva.com/2466/dcrcwe3-2466131.pdf?src-supplier=Digikey; ComponentLink2URL: https://datasheet.ciiva.com/2466/dcrcwe3-2466132.pdf?src-supplier=Digikey; ComponentLink2Description: https://datasheet.ciiva.com/2466/dcrcwe3-2466132.pdf?src-supplier=Digikey; ComponentLink3URL: https://datasheet.ciiva.com/2466/dcrcwe3-2466133.pdf?src-supplier=Digikey; ComponentLink3Description: https://datasheet.ciiva.com/2466/dcrcwe3-2466133.pdf?src-supplier=Digikey; ComponentLink4URL: https://datasheet.ciiva.com/9079/dcrcwe3-9079638.pdf?src-supplier=Avnet; ComponentLink4Description: https://datasheet.ciiva.com/9079/dcrcwe3-9079638.pdf?src-supplier=Avnet; ComponentLink5URL: https://datasheet.ciiva.com/5543/dcrcwe3-109170-5543723.pdf?src-supplier=Mouser; ComponentLink5Description: https://datasheet.ciiva.com/5543/dcrcwe3-109170-5543723.pdf?src-supplier=Mouser; Supplier 1: Digikey; Supplier Part Number 1: 541-3.32HHDKR-ND
footprint R0603
pins: 1, 2

## CRCW040251K0FKED
designator R?  value 51K  (hidden comment: CRCW040251K0FKED)
Res Thick Film 0402 51K Ohm 1% 0.063W(1/16W) ±100ppm/C Pad SMD T/R Automotive AEC-Q200; Manufacturer: Vishay; Library: Hexabitz; Power Rating: 62.5mW; Voltage Rating: 50V; Temperature Coefficient: 100ppm/°C; Max Power Dissipation: 63mW; Supplier: Digikey; Supplier Part Number: 541-51.0KLDKR-ND; Manufacturer Part Number: CRCW040251K0FKED; RoHS: Yes; Category: Chip SMD Resistors; Stock: 43930; Pricing: 1=0.1, 10=0.03, 100=0.0148, 1000=0.00832, 2500=0.00676, 5000=0.00606 (USD); Case/Package: 0402; Weight: 2.3E-05oz; Case Code (Imperial): 0402; Case Code (Metric): 1005; Min Operating Temperature: -55°C; Max Operating Temperature: 155°C; Tolerance: 1%; Packaging: Tape and Reel; Package Quantity: 10000; Number of Terminations: 2; Termination: SMD/SMT; Features: Automotive AEC-Q200; Series: CRCW; Technology: THICK FILM; Voltage Rating (DC): 50V; Length: 1mm; Width: 0.5mm; Height: 0.35mm; Ratings: AEC-Q200; RoHS Compliant: Yes; Lead Free: 5697LeadFree; Reach SVHC Compliant: 4187SVHC; ComponentLink1URL: https://datasheet.ciiva.com/11811/0900766b80d98824-11811446.pdf?src-supplier=Rs; ComponentLink1Description: https://datasheet.ciiva.com/11811/0900766b80d98824-11811446.pdf?src-supplier=Rs; ComponentLink2URL: https://datasheet.ciiva.com/9002/dcrcwe3-9002728.pdf?src-supplier=Avnet; ComponentLink2Description: https://datasheet.ciiva.com/9002/dcrcwe3-9002728.pdf?src-supplier=Avnet; ComponentLink3URL: https://datasheet.ciiva.com/16436/dcrcwe3-16436125.pdf?src-supplier=Future+Electronics; ComponentLink3Description: https://datasheet.ciiva.com/16436/dcrcwe3-16436125.pdf?src-supplier=Future+Electronics; ComponentLink4URL: https://datasheet.ciiva.com/22674/1912744-22674697.pdf?src-supplier=Element14; ComponentLink4Description: https://datasheet.ciiva.com/22674/1912744-22674697.pdf?src-supplier=Element14; ComponentLink5URL: https://datasheet.ciiva.com/2463/dcrcwe3-2463332.pdf?src-supplier=Digikey; ComponentLink5Description: https://datasheet.ciiva.com/2463/dcrcwe3-2463332.pdf?src-supplier=Digikey; ComponentLink6URL: https://datasheet.ciiva.com/2463/dcrcwe3-2463333.pdf?src-supplier=Digikey; ComponentLink6Description: https://datasheet.ciiva.com/2463/dcrcwe3-2463333.pdf?src-supplier=Digikey; ComponentLink7URL: https://datasheet.ciiva.com/2463/dcrcwe3-2463331.pdf?src-supplier=Digikey; ComponentLink7Description: https://datasheet.ciiva.com/2463/dcrcwe3-2463331.pdf?src-supplier=Digikey; ComponentLink8URL: https://datasheet.ciiva.com/16780/70201119-16780046.pdf?src-supplier=Allied+Electronics; ComponentLink8Description: https://datasheet.ciiva.com/16780/70201119-16780046.pdf?src-supplier=Allied+Electronics; Supplier 1: Digikey; Supplier Part Number 1: 541-51.0KLDKR-ND
footprint R0402_3
pins: 1, 2

## CSNL1206FT3L00
designator R?  value 3mR  (hidden comment: CSNL1206FT3L00)
Res Metal Foil 1206 0.003 Ohm 1% 1W ±50ppm/°C Molded SMD SMD Plastic T/R; Manufacturer: Stackpole Electronics; Library: Hexabitz; Supplier: Digikey; Supplier Part Number: CSNL1206FT3L00DKR-ND; Manufacturer Part Number: CSNL1206FT3L00; RoHS: Yes; Category: Chip SMD Resistors; Stock: 57599; Pricing: 1=0.67, 10=0.432, 25=0.368, 50=0.3276, 100=0.2933, 250=0.25556, 500=0.23196, 1000=0.2119 (USD); Lead Free: 5697LeadFree; ComponentLink1URL: http://components.arrow.com/part/dataview/55793397S789987N1174?src-supplier=Arrow+Electronics; ComponentLink1Description: http://components.arrow.com/part/dataview/55793397S789987N1174?src-supplier=Arrow+Electronics; ComponentLink2URL: https://datasheet.octopart.com/CSNL1206FT3L00-Stackpole-Electronics-datasheet-17020204.pdf?src-supplier=Future+Electronics; ComponentLink2Description: https://datasheet.octopart.com/CSNL1206FT3L00-Stackpole-Electronics-datasheet-17020204.pdf?src-supplier=Future+Electronics; ComponentLink3URL: https://www.seielect.com/catalog/SEI-Packaging.pdf?src-supplier=Digikey; ComponentLink3Description: https://www.seielect.com/catalog/SEI-Packaging.pdf?src-supplier=Digikey; ComponentLink4URL: https://www.seielect.com/Catalog/SEI-CSNL.pdf?src-supplier=Avnet; ComponentLink4Description: https://www.seielect.com/Catalog/SEI-CSNL.pdf?src-supplier=Avnet; Supplier 1: Digikey; Supplier Part Number 1: CSNL1206FT3L00DKR-ND
footprint R1206
pins: 1, 2